# Altium footprint library SparkFun-Connectors.PCBLIB: 312 footprints (part 13 of 20)
Each footprint in its own frame and in the unit in brackets; x right, y up, seen from the top. Pads: shape width x height; smd on the part's side, far side on the other; paste and mask are expansions set on the pad; w line width, h text height; cw(c..) or ccw(c..) is an arc to the next point about the centre after c.
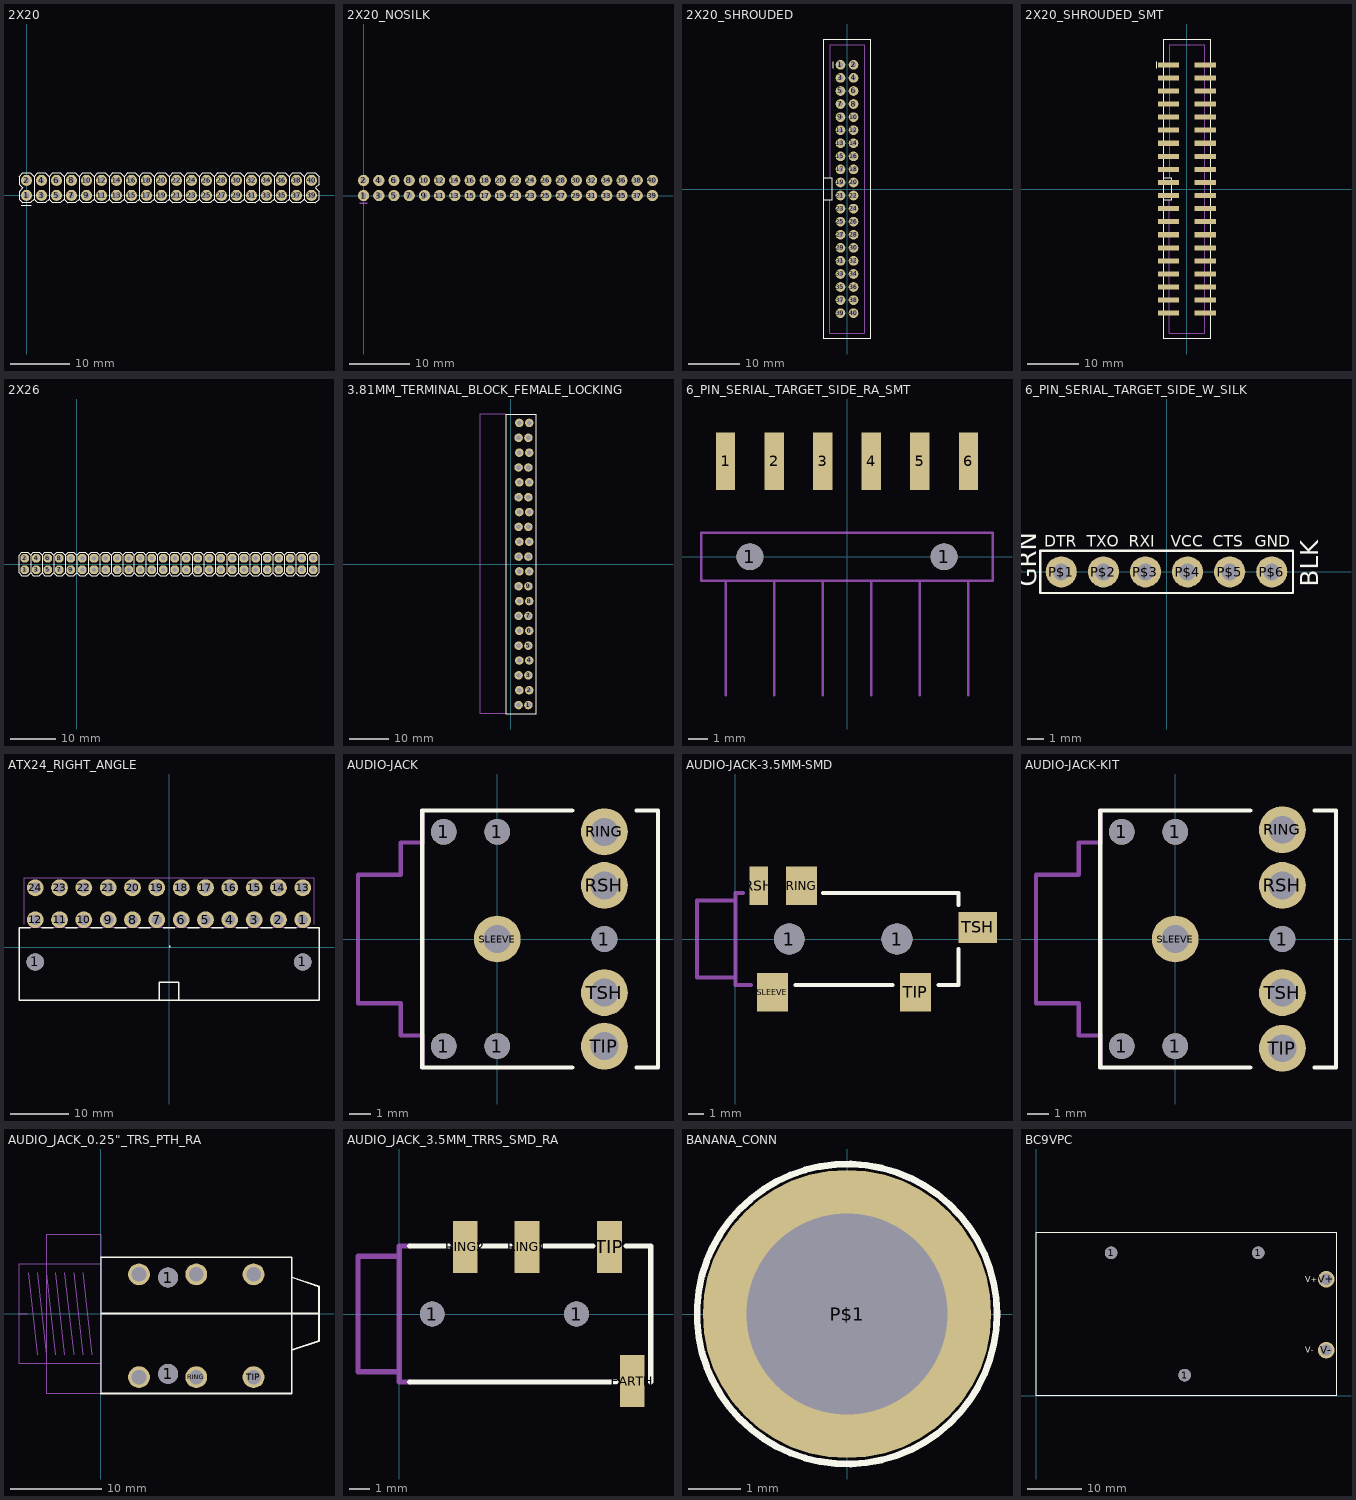
[diagram p12: the footprints below, top view; thin cyan lines are the x and y axes]

## 2X20 [mil]
pads (40):
  round 74 hole 40: 1(0,0) 2(0,100) 3(100,0) 4(100,100) 5(200,0) 6(200,100) 7(300,0) 8(300,100) 9(400,0) 10(400,100) 11(500,0) 12(500,100) 13(600,0) 14(600,100) 15(700,0) 16(700,100) 17(800,0) 18(800,100) 19(900,0) 20(900,100) 21(1000,0) 22(1000,100) 23(1100,0) 24(1100,100) 25(1200,0) 26(1200,100) 27(1300,0) 28(1300,100) 29(1400,0) 30(1400,100) 31(1500,0) 32(1500,100) 33(1600,0) 34(1600,100) 35(1700,0) 36(1700,100) 37(1800,0) 38(1800,100) 39(1900,0) 40(1900,100)
Top Overlay:
  lines w8: -35,-65 30,-65 ; 50,-25 25,-50 -25,-50 -50,-25 -50,25 -25,50 -50,75 -50,125 -25,150 25,150 50,125 ; 50,-25 75,-50 125,-50 150,-25 ; 50,-25 50,125 ; 50,125 75,150 125,150 150,125 ; 150,-25 175,-50 225,-50 250,-25 ; 150,-25 150,125 ; 150,125 175,150 225,150 250,125 ; 250,-25 275,-50 325,-50 350,-25 ; 250,-25 250,125 ; 250,125 275,150 325,150 350,125 ; 350,-25 375,-50 425,-50 450,-25 ; 350,-25 350,125 ; 350,125 375,150 425,150 450,125 ; 450,-25 475,-50 525,-50 550,-25 ; 450,-25 450,125 ; 450,125 475,150 525,150 550,125 ; 550,-25 575,-50 625,-50 650,-25 ; 550,-25 550,125 ; 550,125 575,150 625,150 650,125 ; 650,-25 675,-50 725,-50 750,-25 ; 650,-25 650,125 ; 650,125 675,150 725,150 750,125 ; 750,-25 775,-50 825,-50 850,-25 ; 750,-25 750,125 ; 750,125 775,150 825,150 850,125 ; 850,-25 875,-50 925,-50 950,-25 ; 850,-25 850,125 ; 850,125 875,150 925,150 950,125 ; 950,-25 975,-50 1025,-50 1050,-25 ; 950,-25 950,125 ; 950,125 975,150 1025,150 1050,125 ; 1050,-25 1075,-50 1125,-50 1150,-25 ; 1050,-25 1050,125 ; 1050,125 1075,150 1125,150 1150,125 ; 1150,-25 1175,-50 1225,-50 1250,-25 ; 1150,-25 1150,125 ; 1150,125 1175,150 1225,150 1250,125 ; 1250,-25 1250,125 ; 1250,-25 1275,-50 1325,-50 1350,-25 ; 1250,125 1275,150 1325,150 1350,125 ; 1350,-25 1350,125 ; 1350,-25 1375,-50 1425,-50 1450,-25 ; 1350,125 1375,150 1425,150 1450,125 ; 1450,-25 1450,125 ; 1450,-25 1475,-50 1525,-50 1550,-25 ; 1450,125 1475,150 1525,150 1550,125 ; 1550,-25 1550,125 ; 1550,-25 1575,-50 1625,-50 1650,-25 ; 1550,125 1575,150 1625,150 1650,125 ; 1650,-25 1650,125 ; 1650,-25 1675,-50 1725,-50 1750,-25 ; 1650,125 1675,150 1725,150 1750,125 ; 1750,-25 1750,125 ; 1750,-25 1775,-50 1825,-50 1850,-25 ; 1750,125 1775,150 1825,150 1850,125 ; 1850,-25 1850,125 ; 1850,-25 1875,-50 1925,-50 1950,-25 1950,25 1925,50 1950,75 1950,125 1925,150 1875,150 1850,125
Bottom Overlay:
  lines w8: -35,-65 30,-65
Mechanical 16:
  rectangle: 590,-10 610,10
  rectangle: 490,-10 510,10
  rectangle: 390,-10 410,10
  rectangle: 290,-10 310,10
  rectangle: 190,-10 210,10
  rectangle: 90,-10 110,10
  rectangle: -10,-10 10,10
  rectangle: 1190,-10 1210,10
  rectangle: 1090,-10 1110,10
  rectangle: 990,-10 1010,10
  rectangle: 890,-10 910,10
  rectangle: 790,-10 810,10
  rectangle: 690,-10 710,10
  region: 610,110 590,110 590,90 610,90
  region: 710,110 690,110 690,90 710,90
  region: 810,110 790,110 790,90 810,90
  region: 910,110 890,110 890,90 910,90
  region: 1010,110 990,110 990,90 1010,90
  region: 1110,110 1090,110 1090,90 1110,90
  region: 1210,110 1190,110 1190,90 1210,90
  region: 10,110 -10,110 -10,90 10,90
  region: 110,110 90,110 90,90 110,90
  region: 210,110 190,110 190,90 210,90
  region: 310,110 290,110 290,90 310,90
  region: 410,110 390,110 390,90 410,90
  region: 510,110 490,110 490,90 510,90
  region: 1310,110 1290,110 1290,90 1310,90
  region: 1410,110 1390,110 1390,90 1410,90
  region: 1510,110 1490,110 1490,90 1510,90
  region: 1610,110 1590,110 1590,90 1610,90
  region: 1710,110 1690,110 1690,90 1710,90
  region: 1810,110 1790,110 1790,90 1810,90
  region: 1910,110 1890,110 1890,90 1910,90
  region: 1310,10 1290,10 1290,-10 1310,-10
  region: 1410,10 1390,10 1390,-10 1410,-10
  region: 1510,10 1490,10 1490,-10 1510,-10
  region: 1610,10 1590,10 1590,-10 1610,-10
  region: 1710,10 1690,10 1690,-10 1710,-10
  region: 1810,10 1790,10 1790,-10 1810,-10
  region: 1910,10 1890,10 1890,-10 1910,-10

## 2X20_NOSILK [mil]
pads (40):
  round 74 hole 40: 1(0,0) 2(0,100) 3(100,0) 4(100,100) 5(200,0) 6(200,100) 7(300,0) 8(300,100) 9(400,0) 10(400,100) 11(500,0) 12(500,100) 13(600,0) 14(600,100) 15(700,0) 16(700,100) 17(800,0) 18(800,100) 19(900,0) 20(900,100) 21(1000,0) 22(1000,100) 23(1100,0) 24(1100,100) 25(1200,0) 26(1200,100) 27(1300,0) 28(1300,100) 29(1400,0) 30(1400,100) 31(1500,0) 32(1500,100) 33(1600,0) 34(1600,100) 35(1700,0) 36(1700,100) 37(1800,0) 38(1800,100) 39(1900,0) 40(1900,100)
Mechanical 16:
  region: 10,-10 10,10 -10,10 -10,-10
  region: 10,90 10,110 -10,110 -10,90
  region: 110,90 110,110 90,110 90,90
  region: 110,-10 110,10 90,10 90,-10
  region: 210,90 210,110 190,110 190,90
  region: 210,-10 210,10 190,10 190,-10
  region: 310,90 310,110 290,110 290,90
  region: 310,-10 310,10 290,10 290,-10
  region: 410,90 410,110 390,110 390,90
  region: 410,-10 410,10 390,10 390,-10
  region: 310,-10 310,10 290,10 290,-10
  region: 310,90 310,110 290,110 290,90
  region: 510,-10 510,10 490,10 490,-10
  region: 510,90 510,110 490,110 490,90
  region: 610,90 610,110 590,110 590,90
  region: 610,-10 610,10 590,10 590,-10
  region: 710,90 710,110 690,110 690,90
  region: 710,-10 710,10 690,10 690,-10
  region: 810,90 810,110 790,110 790,90
  region: 810,-10 810,10 790,10 790,-10
  region: 910,90 910,110 890,110 890,90
  region: 910,-10 910,10 890,10 890,-10
  region: 810,-10 810,10 790,10 790,-10
  region: 810,90 810,110 790,110 790,90
  region: 1010,90 1010,110 990,110 990,90
  region: 1010,-10 1010,10 990,10 990,-10
  region: 1110,90 1110,110 1090,110 1090,90
  region: 1110,-10 1110,10 1090,10 1090,-10
  region: 1210,90 1210,110 1190,110 1190,90
  region: 1210,-10 1210,10 1190,10 1190,-10
  region: 1110,-10 1110,10 1090,10 1090,-10
  region: 1110,90 1110,110 1090,110 1090,90
  region: 1310,90 1310,110 1290,110 1290,90
  region: 1410,90 1410,110 1390,110 1390,90
  region: 1510,90 1510,110 1490,110 1490,90
  region: 1610,90 1610,110 1590,110 1590,90
  region: 1710,90 1710,110 1690,110 1690,90
  region: 1810,90 1810,110 1790,110 1790,90
  region: 1910,90 1910,110 1890,110 1890,90
  region: 1310,-10 1310,10 1290,10 1290,-10
  region: 1410,-10 1410,10 1390,10 1390,-10
  region: 1510,-10 1510,10 1490,10 1490,-10
  region: 1610,-10 1610,10 1590,10 1590,-10
  region: 1710,-10 1710,10 1690,10 1690,-10
  region: 1810,-10 1810,10 1790,10 1790,-10
  region: 1910,-10 1910,10 1890,10 1890,-10
  lines w8: -25,-50 25,-50
Mechanical 30:
  lines w8: -25,-50 25,-50

## 2X20_SHROUDED [mil]
pads (40):
  round 74 hole 40: 1(-50,950) 2(50,950) 3(-50,850) 4(50,850) 5(-50,750) 6(50,750) 7(-50,650) 8(50,650) 9(-50,550) 10(50,550) 11(-50,450) 12(50,450) 13(-50,350) 14(50,350) 15(-50,250) 16(50,250) 17(-50,150) 18(50,150) 19(-50,50) 20(50,50) 21(-50,-50) 22(50,-50) 23(-50,-150) 24(50,-150) 25(-50,-250) 26(50,-250) 27(-50,-350) 28(50,-350) 29(-50,-450) 30(50,-450) 31(-50,-550) 32(50,-550) 33(-50,-650) 34(50,-650) 35(-50,-750) 36(50,-750) 37(-50,-850) 38(50,-850) 39(-50,-950) 40(50,-950)
Top Overlay:
  lines w8: -177.17,-86.61 -118.11,-86.61 -118.11,86.61 -177.17,86.61 ; -109.25,925 -109.25,975 ; 173.23,1147.64 -177.17,1147.64 -177.17,-1147.64 177.17,-1147.64 177.17,1147.64
Bottom Overlay:
  lines w8: -110.75,925 -110.75,975
Mechanical 16:
  rectangle: -60,940 -40,960
  rectangle: 40,940 60,960
  rectangle: 40,840 60,860
  rectangle: -60,840 -40,860
  rectangle: 40,740 60,760
  rectangle: -60,740 -40,760
  rectangle: 40,640 60,660
  rectangle: -60,640 -40,660
  rectangle: 40,540 60,560
  rectangle: -60,540 -40,560
  rectangle: -60,640 -40,660
  rectangle: 40,640 60,660
  rectangle: -60,440 -40,460
  rectangle: 40,440 60,460
  rectangle: 40,340 60,360
  rectangle: -60,340 -40,360
  rectangle: 40,240 60,260
  rectangle: -60,240 -40,260
  rectangle: 40,140 60,160
  rectangle: -60,140 -40,160
  rectangle: 40,40 60,60
  rectangle: -60,40 -40,60
  rectangle: -60,140 -40,160
  rectangle: 40,140 60,160
  rectangle: 40,-60 60,-40
  rectangle: -60,-60 -40,-40
  rectangle: 40,-160 60,-140
  rectangle: -60,-160 -40,-140
  rectangle: 40,-260 60,-240
  rectangle: -60,-260 -40,-240
  rectangle: -60,-160 -40,-140
  rectangle: 40,-160 60,-140
  rectangle: 40,-360 60,-340
  rectangle: 40,-460 60,-440
  rectangle: 40,-560 60,-540
  rectangle: 40,-660 60,-640
  rectangle: 40,-760 60,-740
  rectangle: 40,-860 60,-840
  rectangle: 40,-960 60,-940
  rectangle: -60,-360 -40,-340
  rectangle: -60,-460 -40,-440
  rectangle: -60,-560 -40,-540
  rectangle: -60,-660 -40,-640
  rectangle: -60,-760 -40,-740
  rectangle: -60,-860 -40,-840
  rectangle: -60,-960 -40,-940
  lines w8: -133.86,-86.61 -133.86,-1104.33 133.86,-1104.33 133.86,1104.33 -133.86,1104.33 -133.86,86.61

## 2X20_SHROUDED_SMT [mil]
pads (40):
  rect 163x39 smd: 1(-140.5,950) 2(140.5,950) 3(-140.5,850) 4(140.5,850) 5(-140.5,750) 6(140.5,750) 7(-140.5,650) 8(140.5,650) 9(-140.5,550) 10(140.5,550) 11(-140.5,450) 12(140.5,450) 13(-140.5,350) 14(140.5,350) 15(-140.5,250) 16(140.5,250) 17(-140.5,150) 18(140.5,150) 19(-140.5,50) 20(140.5,50) 21(-140.5,-50) 22(140.5,-50) 23(-140.5,-150) 24(140.5,-150) 25(-140.5,-250) 26(140.5,-250) 27(-140.5,-350) 28(140.5,-350) 29(-140.5,-450) 30(140.5,-450) 31(-140.5,-550) 32(140.5,-550) 33(-140.5,-650) 34(140.5,-650) 35(-140.5,-750) 36(140.5,-750) 37(-140.5,-850) 38(140.5,-850) 39(-140.5,-950) 40(140.5,-950)
Top Overlay:
  lines w8: -234.25,925 -234.25,975 ; -177.17,-86.61 -118.11,-86.61 -118.11,86.61 -177.17,86.61 ; 173.23,1147.64 -177.17,1147.64 -177.17,-1147.64 177.17,-1147.64 177.17,1147.64
Bottom Overlay:
  lines w8: -235.75,925 -235.75,975
Mechanical 16:
  lines w8: -133.86,-86.61 -133.86,-1104.33 133.86,-1104.33 133.86,1104.33 -133.86,1104.33 -133.86,86.61

## 2X26 [mil]
pads (52):
  oct 74x74 hole 40: 1(-450,-50) 2(-450,50) 3(-350,-50) 4(-350,50) 5(-250,-50) 6(-250,50) 7(-150,-50) 8(-150,50) 9(-50,-50) 10(-50,50) 11(50,-50) 12(50,50) 13(150,-50) 14(150,50) 15(250,-50) 16(250,50) 17(350,-50) 18(350,50) 19(450,-50) 20(450,50) 21(550,-50) 22(550,50) 23(650,-50) 24(650,50) 25(750,-50) 26(750,50) 27(850,-50) 28(850,50) 29(950,-50) 30(950,50) 31(1050,-50) 32(1050,50) 33(1150,-50) 34(1150,50) 35(1250,-50) 36(1250,50) 37(1350,-50) 38(1350,50) 39(1450,-50) 40(1450,50) 41(1550,-50) 42(1550,50) 43(1650,-50) 44(1650,50) 45(1750,-50) 46(1750,50) 47(1850,-50) 48(1850,50) 49(1950,-50) 50(1950,50) 51(2050,-50) 52(2050,50)
Top Overlay:
  drawing of 183 lines, arcs and shapes, not listed
Mechanical 16:
  rectangle: -460,-60 -440,-40
  rectangle: -460,40 -440,60
  rectangle: -360,40 -340,60
  rectangle: -360,-60 -340,-40
  rectangle: -260,40 -240,60
  rectangle: -260,-60 -240,-40
  rectangle: -160,40 -140,60
  rectangle: -60,40 -40,60
  rectangle: 40,40 60,60
  rectangle: -160,-60 -140,-40
  rectangle: -60,-60 -40,-40
  rectangle: 40,-60 60,-40
  rectangle: 140,40 160,60
  rectangle: 140,-60 160,-40
  rectangle: 240,40 260,60
  rectangle: 240,-60 260,-40
  rectangle: 340,40 360,60
  rectangle: 340,-60 360,-40
  rectangle: 440,40 460,60
  rectangle: 440,-60 460,-40
  rectangle: 540,-60 560,-40
  rectangle: 540,40 560,60
  rectangle: 640,40 660,60
  rectangle: 640,-60 660,-40
  rectangle: 740,40 760,60
  rectangle: 740,-60 760,-40
  rectangle: 840,40 860,60
  rectangle: 940,40 960,60
  rectangle: 1040,40 1060,60
  rectangle: 840,-60 860,-40
  rectangle: 940,-60 960,-40
  rectangle: 1040,-60 1060,-40
  rectangle: 1140,40 1160,60
  rectangle: 1140,-60 1160,-40
  rectangle: 1240,40 1260,60
  rectangle: 1240,-60 1260,-40
  rectangle: 1340,40 1360,60
  rectangle: 1340,-60 1360,-40
  rectangle: 1440,40 1460,60
  rectangle: 1440,-60 1460,-40
  rectangle: 1540,40 1560,60
  rectangle: 1640,40 1660,60
  rectangle: 1540,-60 1560,-40
  rectangle: 1640,-60 1660,-40
  rectangle: 1740,40 1760,60
  rectangle: 1740,-60 1760,-40
  rectangle: 1840,40 1860,60
  rectangle: 1840,-60 1860,-40
  rectangle: 1940,40 1960,60
  rectangle: 1940,-60 1960,-40
  rectangle: 2040,40 2060,60
  rectangle: 2040,-60 2060,-40

## 3.81MM_TERMINAL_BLOCK_FEMALE_LOCKING [mil]
pads (40):
  round 86 hole 47.24: 1(178,-1424.95) 2(186,-1274.95) 3(178,-1124.95) 4(186,-974.95) 5(178,-824.95) 6(186,-674.95) 7(178,-524.95) 8(186,-374.95) 9(178,-224.95) 10(186,-74.95) 11(178,75.05) 12(186,225.05) 13(178,375.05) 14(186,525.05) 15(178,675.05) 16(186,825.05) 17(178,975.05) 18(186,1125.05) 19(178,1275.05) 20(186,1425.05) @1(78,-1424.95) @2(86,-1274.95) @3(78,-1124.95) @4(86,-974.95) @5(78,-824.95) @6(86,-674.95) @7(78,-524.95) @8(86,-374.95) @9(78,-224.95) @10(86,-74.95) @11(78,75.05) @12(86,225.05) @13(78,375.05) @14(86,525.05) @15(78,675.05) @16(86,825.05) @17(78,975.05) @18(86,1125.05) @19(78,1275.05) @20(86,1425.05)
Top Overlay:
  lines w8: -50,-1515.55 -50,1515.55 257,1515.55 257,-1515.55 -50,-1515.55
Mechanical 16:
  rectangle: 163.5,1266.55 200.5,1283.55
  rectangle: 163.5,1416.55 200.5,1433.55
  rectangle: 63.5,1266.55 100.5,1283.55
  rectangle: 63.5,1416.55 100.5,1433.55
  rectangle: 163.5,966.55 200.5,983.55
  rectangle: 163.5,1116.55 200.5,1133.55
  rectangle: 63.5,966.55 100.5,983.55
  rectangle: 63.5,1116.55 100.5,1133.55
  rectangle: 163.5,666.55 200.5,683.55
  rectangle: 163.5,816.55 200.5,833.55
  rectangle: 63.5,666.55 100.5,683.55
  rectangle: 63.5,816.55 100.5,833.55
  rectangle: 163.5,366.55 200.5,383.55
  rectangle: 163.5,516.55 200.5,533.55
  rectangle: 63.5,366.55 100.5,383.55
  rectangle: 63.5,516.55 100.5,533.55
  rectangle: 163.5,66.55 200.5,83.55
  rectangle: 163.5,216.55 200.5,233.55
  rectangle: 63.5,66.55 100.5,83.55
  rectangle: 63.5,216.55 100.5,233.55
  rectangle: 163.5,-233.45 200.5,-216.45
  rectangle: 163.5,-83.45 200.5,-66.45
  rectangle: 63.5,-233.45 100.5,-216.45
  rectangle: 63.5,-83.45 100.5,-66.45
  rectangle: 163.5,-533.45 200.5,-516.45
  rectangle: 163.5,-383.45 200.5,-366.45
  rectangle: 63.5,-533.45 100.5,-516.45
  rectangle: 63.5,-383.45 100.5,-366.45
  rectangle: 163.5,-833.45 200.5,-816.45
  rectangle: 163.5,-683.45 200.5,-666.45
  rectangle: 63.5,-833.45 100.5,-816.45
  rectangle: 63.5,-683.45 100.5,-666.45
  rectangle: 163.5,-1133.45 200.5,-1116.45
  rectangle: 163.5,-983.45 200.5,-966.45
  rectangle: 63.5,-1133.45 100.5,-1116.45
  rectangle: 63.5,-983.45 100.5,-966.45
  rectangle: 163.5,-1433.45 200.5,-1416.45
  rectangle: 163.5,-1283.45 200.5,-1266.45
  rectangle: 63.5,-1433.45 100.5,-1416.45
  rectangle: 63.5,-1283.45 100.5,-1266.45
  lines w8: -50,-1515.55 -314,-1515.55 -314,1515.55 -50,1515.55

## 6_PIN_SERIAL_TARGET_SIDE_RA_SMT [mm]
pads (8):
  rect 1x3 smd: 1(-6.35,5) 2(-3.81,5) 3(-1.27,5) 4(1.27,5) 5(3.81,5) 6(6.35,5)
  round 1.4 hole 1.4: 1(-5.08,0) 1(5.08,0)
Mechanical 16:
  lines w0.127: -6.35,-7.25 -6.35,-1.25 ; -3.81,-7.25 -3.81,-1.25 ; -1.27,-7.25 -1.27,-1.25 ; 1.27,-7.25 1.27,-1.25 ; 3.81,-7.25 3.81,-1.25 ; 6.35,-7.25 6.35,-1.25 ; -6.35,-1.25 -7.62,-1.25 -7.62,1.25 7.62,1.25 7.62,-1.25 6.35,-1.25 ; -6.35,-1.25 -3.81,-1.25 ; -3.81,-1.25 -1.27,-1.25 ; -1.27,-1.25 1.27,-1.25 ; 1.27,-1.25 3.81,-1.25 ; 3.81,-1.25 6.35,-1.25
  text "TXO" at -3.81,-1.016 h0.69
  text "RXI" at -1.27,-1.016 h0.69
  text "VCC" at 1.27,-1.016 h0.69
  text "DTR" at -6.35,-1.016 h0.69
  text "GND" at 6.35,-1.016 h0.69
  text "CTS" at 3.81,-1.016 h0.69
  text "GRN" at -7.366,-2.54 h0.69
  text "BLK" at 7.366,-2.54 h0.69

## 6_PIN_SERIAL_TARGET_SIDE_W_SILK [mil]
pads (6):
  round 74 hole 40: P$1(-250,0) P$2(-150,0) P$3(-50,0) P$4(50,0) P$5(150,0) P$6(250,0)
Top Overlay:
  lines w5: -300,-50 300,-50 300,50 -300,50 -300,-50
  text "GRN" at -310,-35 h42.5
  text "BLK" at 360,-35 h42.5
  text "TXO" at -190,60 h27.2
  text "RXI" at -90,60 h27.2
  text "VCC" at 10,60 h27.2
  text "DTR" at -290,60 h27.2
  text "GND" at 210,60 h27.2
  text "CTS" at 110,60 h27.2

## ATX24_RIGHT_ANGLE [mm]
pads (26):
  round 3 hole 3: 1(-23.1,-2.54) 1(23.1,-2.54)
  round 2.9 hole 1.8: 1(23.1,4.76) 2(18.9,4.76) 3(14.7,4.76) 4(10.5,4.76) 5(6.3,4.76) 6(2.1,4.76) 7(-2.1,4.76) 8(-6.3,4.76) 9(-10.5,4.76) 10(-14.7,4.76) 11(-18.9,4.76) 12(-23.1,4.76) 13(23.1,10.26) 14(18.9,10.26) 15(14.7,10.26) 16(10.5,10.26) 17(6.3,10.26) 18(2.1,10.26) 19(-2.1,10.26) 20(-6.3,10.26) 21(-10.5,10.26) 22(-14.7,10.26) 23(-18.9,10.26) 24(-23.1,10.26)
Top Overlay:
  region: 0,0 0.254,0 0.254,0.254 0,0.254
  lines w0.254: -24,3.4 -25.9,3.4 -25.9,-9.14 25.9,-9.14 25.9,3.4 24,3.4 ; -22,3.4 -20,3.4 ; -17.8,3.4 -15.8,3.4 ; -13.5,3.4 -11.5,3.4 ; -9.4,3.4 -7.4,3.4 ; -5.2,3.4 -3.2,3.4 ; -1.7,-9 -1.7,-6 1.7,-6 1.7,-9 ; -1,3.4 1,3.4 ; 3.2,3.4 5.2,3.4 ; 7.4,3.4 9.4,3.4 ; 11.6,3.4 13.6,3.4 ; 15.8,3.4 17.8,3.4 ; 20,3.4 22,3.4
Mechanical 16:
  lines w0.127: -25,4 -25,12 25,12 25,4
  lines w0.203: -25.9,3.4 25.9,3.4

## AUDIO-JACK [mm]
pads (10):
  round 1.2 hole 1.2: 1(-2.5,-5) 1(-2.5,5) 1(0,-5) 1(0,5) 1(5,0)
  round 2.184 hole 1.3: RING(5,5) RSH(5,2.5) SLEEVE(0,0) TIP(5,-5) TSH(5,-2.5)
Top Overlay:
  lines w0.203: 3.5,-6 -3.5,-6 -3.5,6 3.5,6 ; 6.5,-6 7.5,-6 7.5,6 6.5,6
Mechanical 16:
  lines w0.203: -3.5,-6 -3.5,-4.5 -4.5,-4.5 -4.5,-3 -6.5,-3 -6.5,3 -4.5,3 -4.5,4.5 -3.5,4.5 -3.5,6

## AUDIO-JACK-3.5MM-SMD [mm]
pads (7):
  round 2 hole 2: 1(3.5,0) 1(10.5,0)
  rect 2x2.5 smd: RING(4.3,3.45) SLEEVE(2.4,-3.45) TIP(11.7,-3.45)
  rect 1.2x2.5 smd: RSH(1.5,3.45)
  rect 2.5x2 smd: TSH(15.75,0.75)
Top Overlay:
  lines w0.254: 3.9,-3 10.2,-3 ; 5.7,3 14.5,3 14.5,2.21 ; 13.2,-3 14.5,-3 14.5,-0.635
Mechanical 16:
  lines w0.254: -0.152,2.5 -2.5,2.5 -2.5,-2.5 0,-2.5 ; 0.5,3 0,3 0,-2.5 ; 1,-3 0,-3 0,-2.5

## AUDIO-JACK-KIT [mil]
pads (10):
  round 47.24 hole 47.24: 1(-98.43,-196.85) 1(-98.43,196.85) 1(0,-196.85) 1(0,196.85) 1(196.85,0)
  round 86 hole 51.18: RING(196.85,200.79) RSH(196.85,98.43) SLEEVE(0,0) TIP(196.85,-200.79) TSH(196.85,-98.43)
Top Overlay:
  lines w8: 137.8,-236.22 -137.8,-236.22 -137.8,236.22 137.8,236.22 ; 255.91,-236.22 295.28,-236.22 295.28,236.22 255.91,236.22
Top Solder:
  circle w0: c0,0 r26
  circle w0: c196.85,200.79 r26
  circle w0: c196.85,98.43 r26
  circle w0: c196.85,-98.43 r26
  circle w0: c196.85,-200.79 r26
Bottom Solder:
  circle w0: c0,0 r48
  circle w0: c196.85,200.79 r48
  circle w0: c196.85,-200.79 r48
  circle w0: c196.85,-98.43 r48
  circle w0: c196.85,98.43 r48
Mechanical 16:
  lines w8: -137.8,-236.22 -137.8,-177.17 -177.17,-177.17 -177.17,-118.11 -255.91,-118.11 -255.91,118.11 -177.17,118.11 -177.17,177.17 -137.8,177.17 -137.8,236.22

## AUDIO_JACK_0.25"_TRS_PTH_RA [mm]
pads (8):
  round 2.2 hole 2.2: 1(7.4,-6.6) 1(7.4,4)
  round 2.4 hole 1.6: RING(10.5,-6.95) RING-NORM(10.5,4.35) SLEEVE(4.2,-6.95) SLEEVE-NORM(4.2,4.35) TIP(16.8,-6.95) TIP-NORM(16.8,4.35)
Top Overlay:
  lines w0.127: 0,-8.77 0,6.23
  lines w0.203: 0,-8.77 21,-8.77 21,-3.97 ; 0,6.23 21,6.23 21,4.03 ; 0.095,0.03 24,0.03 ; 21,-3.97 21,4.03 ; 21,-3.97 24,-2.97 24,0.03 ; 21,4.03 24,3.03 24,0.03
Mechanical 16:
  lines w0.127: -8.1,0.03 -9,0.03 ; -8,4.53 -7,-4.47 ; -7,4.53 -6,-4.47 ; -6,4.53 -5,-4.47 ; -5,4.53 -4,-4.47 ; -4,4.53 -3,-4.47 ; -3,4.53 -2,-4.47 ; -2,4.53 -1,-4.47 ; -9,0.03 -9,-5.47 0,-5.47 0,5.53 -9,5.53 -9,0.03 ; -6,-8.75 0,-8.75 0,8.75 -6,8.75 -6,-8.75

## AUDIO_JACK_3.5MM_TRRS_SMD_RA [mil]
pads (6):
  round 47.24 hole 47.24: 1(62.99,0) 1(338.58,0)
  rect 47.24x98.43 smd: EARTH(444.88,-127.95) RING1(244.09,127.95) RING2(125.98,127.95) TIP(401.57,127.95)
Top Overlay:
  lines w10: 19.69,-129.92 413.39,-129.92 ; 19.69,129.92 94.49,129.92 ; 157.48,129.92 212.6,129.92 ; 275.59,129.92 370.08,129.92 ; 433.07,129.92 480.32,129.92 480.32,-129.92
Mechanical 16:
  lines w10: 19.69,-129.92 0,-129.92 0,-110.24 ; 19.69,129.92 0,129.92 0,110.24 ; 0,-110.24 0,110.24 ; 0,-110.24 -78.74,-110.24 -78.74,110.24 0,110.24

## BANANA_CONN [mil]
pads (1):
  round 215 hole 150: P$1(0,0)
Top Overlay:
  circle w5: c0,0 r111.8

## BC9VPC [mil]
pads (5):
  round 90 hole 90: 1(540,1030) 1(1070,150) 1(1600,1030)
  round 120 hole 80: V+(2090,840) V-(2090,330)
Top Overlay:
  lines w5: 0,0 0,1180 2160,1180 2160,0 0,0
  text "V+" at 1940,820 h42.5
  text "V-" at 1940,310 h42.5